# EAGLE library part 256-448/000-009/999-950 (library con-wago_256)
Serie 256, Ex-e-II-Klemmenleiste für Leiterplatten 2 Lötstifte/Pol / Series 256, Ex e II PCB terminal strip 2 solder pins/pole Polzahl / Pole No.: 48 Rastermaß / Pitch: 5.08 mm Bemessungsspannung / Rated Voltage: 175 V Nennstrom / Nominal Current: 16 A Leiterquerschnitt / Conductor Size: 0.08 - 2.5 mm² Anschlusstechnik / Connection Technology: CAGE CLAMP® Lötstiftlänge: / Solder Pin Length: 4 mm Leitereinführung (zur Platine) / Conductor entry angle (to PCB): 45 ° Farbe / Color: lichtgrau / light gray Stand: 01.01.2012. Die jeweils aktuellen Daten zu diesem Artikel finden Sie in unserem Produktkatalog, den Sie unter www.wago.com einsehen können. As of: 01/01/2012. Please find the newest data for this article in our product catalogue, which can be viewed under www.wago.com.
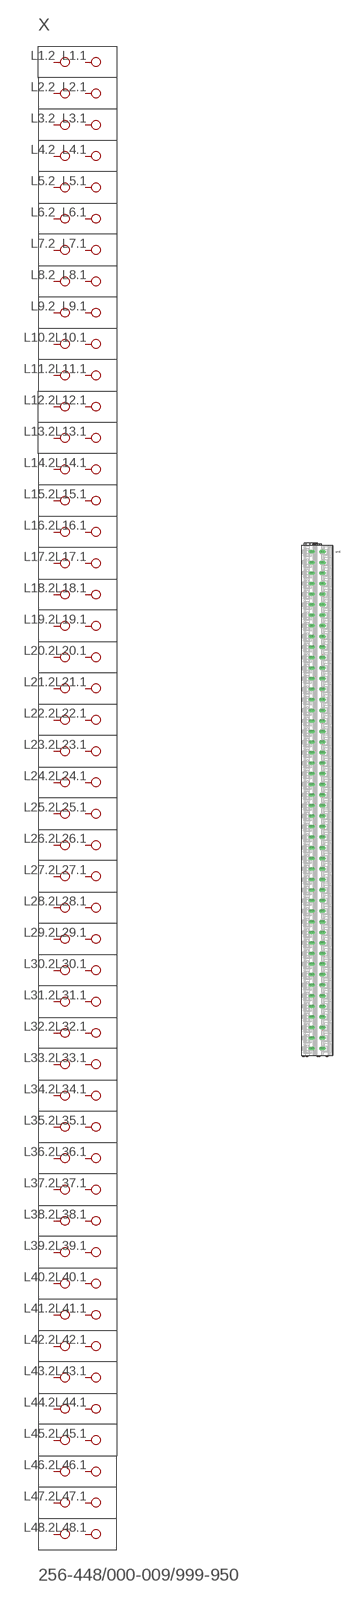
[diagram p80: symbol with the pads of P-256-448; footprint P-256-448]

Designator prefix X

## 256-448/000-009/999-950  [P-256-448]
L1.1  P1.1
L1.2  P1.2
L2.1  P2.1
L2.2  P2.2
L3.1  P3.1
L3.2  P3.2
L4.1  P4.1
L4.2  P4.2
L5.1  P5.1
L5.2  P5.2
L6.1  P6.1
L6.2  P6.2
L7.1  P7.1
L7.2  P7.2
L8.1  P8.1
L8.2  P8.2
L9.1  P9.1
L9.2  P9.2
L10.1  P10.1
L10.2  P10.2
L11.1  P11.1
L11.2  P11.2
L12.1  P12.1
L12.2  P12.2
L13.1  P13.1
L13.2  P13.2
L14.1  P14.1
L14.2  P14.2
L15.1  P15.1
L15.2  P15.2
L16.1  P16.1
L16.2  P16.2
L17.1  P17.1
L17.2  P17.2
L18.1  P18.1
L18.2  P18.2
L19.1  P19.1
L19.2  P19.2
L20.1  P20.1
L20.2  P20.2
L21.1  P21.1
L21.2  P21.2
L22.1  P22.1
L22.2  P22.2
L23.1  P23.1
L23.2  P23.2
L24.1  P24.1
L24.2  P24.2
L25.1  P25.1
L25.2  P25.2
L26.1  P26.1
L26.2  P26.2
L27.1  P27.1
L27.2  P27.2
L28.1  P28.1
L28.2  P28.2
L29.1  P29.1
L29.2  P29.2
L30.1  P30.1
L30.2  P30.2
L31.1  P31.1
L31.2  P31.2
L32.1  P32.1
L32.2  P32.2
L33.1  P33.1
L33.2  P33.2
L34.1  P34.1
L34.2  P34.2
L35.1  P35.1
L35.2  P35.2
L36.1  P36.1
L36.2  P36.2
L37.1  P37.1
L37.2  P37.2
L38.1  P38.1
L38.2  P38.2
L39.1  P39.1
L39.2  P39.2
L40.1  P40.1
L40.2  P40.2
L41.1  P41.1
L41.2  P41.2
L42.1  P42.1
L42.2  P42.2
L43.1  P43.1
L43.2  P43.2
L44.1  P44.1
L44.2  P44.2
L45.1  P45.1
L45.2  P45.2
L46.1  P46.1
L46.2  P46.2
L47.1  P47.1
L47.2  P47.2
L48.1  P48.1
L48.2  P48.2

## Footprint P-256-448 (pad centres in mm)
drill 1.1 long: L1.1 2.485,117.3; L1.2 -2.515,117.3; L2.1 2.485,112.3; L2.2 -2.515,112.3; L3.1 2.485,107.3; L3.2 -2.515,107.3; L4.1 2.485,102.3; L4.2 -2.515,102.3; L5.1 2.485,97.3; L5.2 -2.515,97.3; L6.1 2.485,92.3; L6.2 -2.515,92.3; L7.1 2.485,87.3; L7.2 -2.515,87.3; L8.1 2.485,82.3; L8.2 -2.515,82.3; L9.1 2.485,77.3; L9.2 -2.515,77.3; L10.1 2.485,72.3; L10.2 -2.515,72.3; L11.1 2.485,67.3; L11.2 -2.515,67.3; L12.1 2.485,62.3; L12.2 -2.515,62.3; L13.1 2.485,57.3; L13.2 -2.515,57.3; L14.1 2.485,52.3; L14.2 -2.515,52.3; L15.1 2.485,47.3; L15.2 -2.515,47.3; L16.1 2.485,42.3; L16.2 -2.515,42.3; L17.1 2.485,37.3; L17.2 -2.515,37.3; L18.1 2.485,32.3; L18.2 -2.515,32.3; L19.1 2.485,27.3; L19.2 -2.515,27.3; L20.1 2.485,22.3; L20.2 -2.515,22.3; L21.1 2.485,17.3; L21.2 -2.515,17.3; L22.1 2.485,12.3; L22.2 -2.515,12.3; L23.1 2.485,7.3; L23.2 -2.515,7.3; L24.1 2.485,2.3; L24.2 -2.515,2.3; L25.1 2.485,-2.7; L25.2 -2.515,-2.7; L26.1 2.485,-7.7; L26.2 -2.515,-7.7; L27.1 2.485,-12.7; L27.2 -2.515,-12.7; L28.1 2.485,-17.7; L28.2 -2.515,-17.7; L29.1 2.485,-22.7; L29.2 -2.515,-22.7; L30.1 2.485,-27.7; L30.2 -2.515,-27.7; L31.1 2.485,-32.7; L31.2 -2.515,-32.7; L32.1 2.485,-37.7; L32.2 -2.515,-37.7; L33.1 2.485,-42.7; L33.2 -2.515,-42.7; L34.1 2.485,-47.7; L34.2 -2.515,-47.7; L35.1 2.485,-52.7; L35.2 -2.515,-52.7; L36.1 2.485,-57.7; L36.2 -2.515,-57.7; L37.1 2.485,-62.7; L37.2 -2.515,-62.7; L38.1 2.485,-67.7; L38.2 -2.515,-67.7; L39.1 2.485,-72.7; L39.2 -2.515,-72.7; L40.1 2.485,-77.7; L40.2 -2.515,-77.7; L41.1 2.485,-82.7; L41.2 -2.515,-82.7; L42.1 2.485,-87.7; L42.2 -2.515,-87.7; L43.1 2.485,-92.7; L43.2 -2.515,-92.7; L44.1 2.485,-97.7; L44.2 -2.515,-97.7; L45.1 2.485,-102.7; L45.2 -2.515,-102.7; L46.1 2.485,-107.7; L46.2 -2.515,-107.7; L47.1 2.485,-112.7; L47.2 -2.515,-112.7; L48.1 2.485,-117.7; L48.2 -2.515,-117.7